# Altium schematic symbol library Schlib1.SchLib: 43 symbols
Pins are listed as number, name and electrical type; pins without a type are passive.

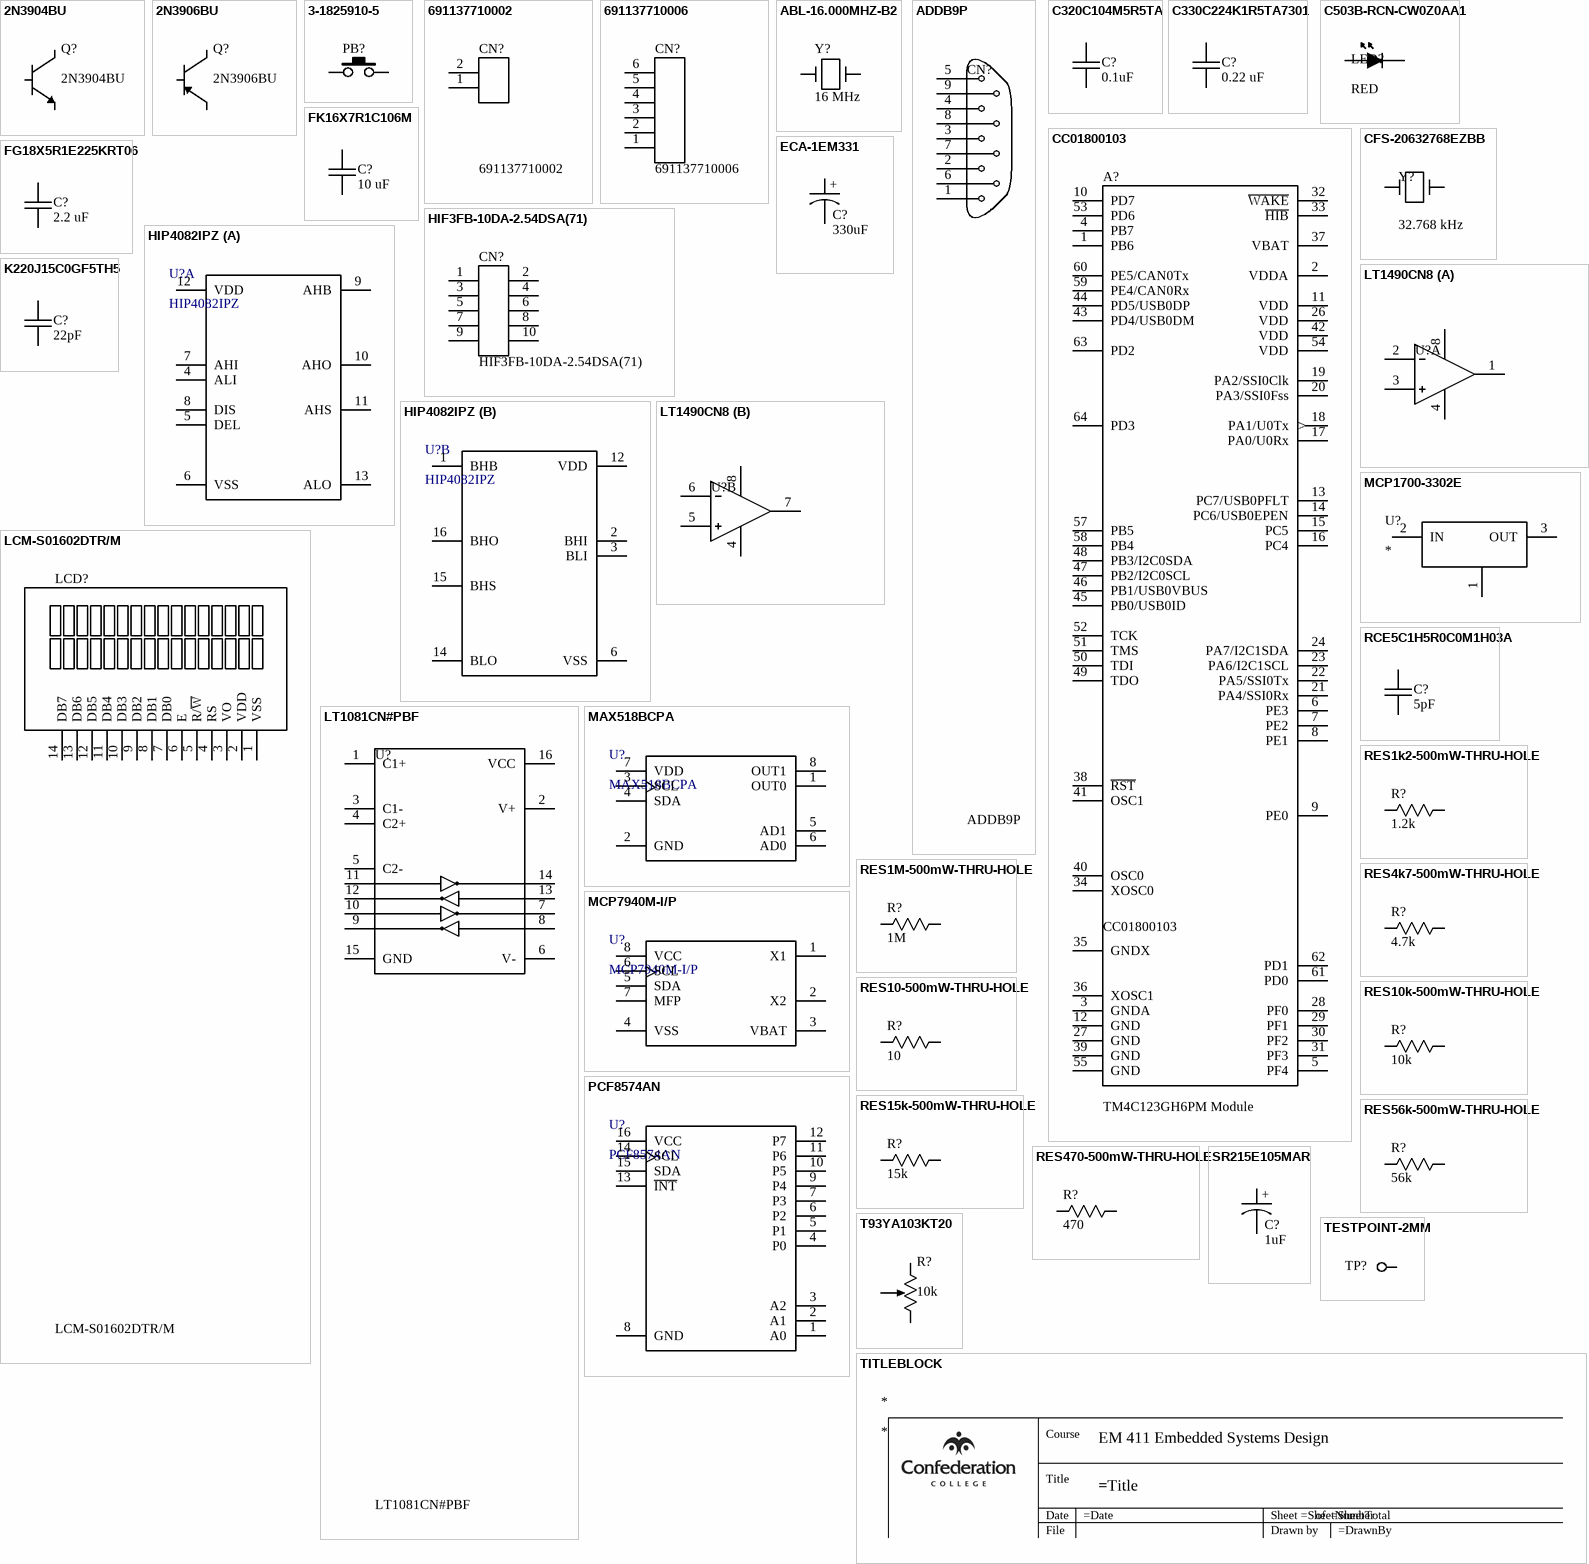
[diagram p0: symbols 2N3904BU to TITLEBLOCK]

## 2N3904BU
designator Q?
NPN General Purpose Amplifier; Manufacturer: Fairchild Semiconductor Corporation; PartNumber: 2N3904BU; Value: NPN
footprint 2N3904BU
pins: 1 E, 2 B, 3 C

## 2N3906BU
designator Q?
PNP General Purpose Amplifier; Manufacturer: Fairchild Semiconductor Corporation; PartNumber: 2N3906BU; Value: PNP
footprint 2N3906BU
pins: 1 E, 2 B, 3 C

## 3-1825910-5
designator PB?  (value not drawn)
SWITCH TACTILE SPST-NO 0.05A 24V; Manufacturer: TE Connectivity ALCOSWITCH Switches; PartNumber: 3-1825910-5
footprint 3-1825910-5
pins: 1, 2

## 691137710002
designator CN?
TERM BLK 2POS SIDE ENTRY 5MM PCB; Manufacturer: Wurth Elektronk; PartNumber: 691137710002
footprint 691137710002
pins: 1, 2

## 691137710006
designator CN?
TERM BLK 6POS SIDE ENTRY 5MM PCB; Manufacturer: Wurth Elektronik; PartNumber: 691137710006
footprint 691137710006
pins: 1, 2, 3, 4, 5, 6

## ABL-16.000MHZ-B2
designator Y?, comment 16 MHz
16 MHz AC/49US (AT49) Microprocessor Crystall; PartNumber: ABL-16.000MHZ-B2; Manufacturer: Abracon Corporation
footprint ABL-16.000MHZ-B2
pins: 1, 2

## ADDB9P
designator CN?
Solderless Breadboard DE9P Adapter; Manufacturer: Technological Arts; PartNumber: ADDB9P
footprint ADDB9P
pins: 1, 2, 3, 4, 5, 6, 7, 8, 9

## C320C104M5R5TA
designator C?, comment 0.1uF
0.1 uF, 50 V Ceramic Capacitor; Manufacturer: Kemet; PartNumber: C320C104M5R5TA
footprint C320C104M5R5TA
pins: 1, 2

## C330C224K1R5TA7301
designator C?, comment 0.22 uF
0.22 uF, 100 V Ceramic Capacitor; Manufacturer: Kemet; PartNumber: C330C224K1R5TA7301
footprint C330C224K1R5TA7301
pins: 1, 2

## C503B-RCN-CW0Z0AA1
designator LED?, comment RED
5 mm Red Round LED; Manufacturer: Cree, Inc.; PartNumber: C503B-RCN-CW0Z0AA1; Value: RED
simulation model Generic Resistor (Thick Film Chip Resistor)
footprint C503B-RCN-CW0Z0AA1
pins: A, K

## CC01800103
designator A?  Microcontroller: TM4C123GH6PM Module
Tiva TM4C123GH6PM Microcontroller Module; Manufacturer: Confederation College; PartNumber: CC01800103
footprint CC01800102
pins: 1 PB6, 2 VDDA (power), 3 GNDA (power), 4 PB7, 5 PF4, 6 PE3, 7 PE2, 8 PE1, 9 PE0, 10 PD7, 11 VDD (power), 12 GND (power), 13 PC7/USB0PFLT, 14 PC6/USB0EPEN, 15 PC5, 16 PC4, 17 PA0/U0Rx, 18 PA1/U0Tx (out), 19 PA2/SSI0Clk, 20 PA3/SSI0Fss, 21 PA4/SSI0Rx, 22 PA5/SSI0Tx, 23 PA6/I2C1SCL, 24 PA7/I2C1SDA, 26 VDD, 27 GND, 28 PF0, 29 PF1, 30 PF2, 31 PF3, 32 ~{WAKE}, 33 ~{HIB}, 34 XOSC0, 35 GNDX (power), 36 XOSC1, 37 VBAT, 38 ~{RST}, 39 GND (power), 40 OSC0 (power), 41 OSC1 (power), 42 VDD, 43 PD4/USB0DM, 44 PD5/USB0DP, 45 PB0/USB0ID, 46 PB1/USB0VBUS, 47 PB2/I2C0SCL, 48 PB3/I2C0SDA, 49 TDO, 50 TDI, 51 TMS, 52 TCK, 53 PD6, 54 VDD (power), 55 GND (power), 57 PB5, 58 PB4, 59 PE4/CAN0Rx, 60 PE5/CAN0Tx, 61 PD0, 62 PD1, 63 PD2, 64 PD3

## CFS-20632768EZBB
designator Y?, comment 32.768 kHz
32.768 kHz Tuning Fork (Cylinder Type, 6 pF); PartNumber: CFS-20632768EZBB; Manufacturer: Citizen
footprint CFS-20632768EZBB
pins: 1, 2

## ECA-1EM331
designator C?, comment 330uF
330 uF, 25 V Aluminum Electrolytic Capacitor; Manufacturer: Panasonic Corporation of North America; PartNumber: ECA-1EM331
footprint ECA-1EM331
pins: 1, 2
text: +

## FG18X5R1E225KRT06
designator C?, comment 2.2 uF
CAP CER 2.2UF 25V X5R RADIAL; Manufacturer: TDK Corporation; PartNumber: FG18X5R1E225KRT06
footprint FG18X5R1E225KRT06
pins: 1, 2

## FK16X7R1C106M
designator C?, comment 10 uF
CAP CER 10UF 16V X7R RADIAL; Manufacturer: TDK Corporation; PartNumber: FK16X7R1C106M
footprint FK16X7R1C106M
pins: 1, 2

## HIF3FB-10DA-2.54DSA(71)
designator CN?
CONN RCPT 10POS 0.1 GOLD PCB; Manufacturer: Hirose Electric Co, Ltd; PartNumber: HIF3FB-10DA-2.54DSA(71)
footprint HIF3FB-10DA-2.54DSA(71)
pins: 1, 2, 3, 4, 5, 6, 7, 8, 9, 10

## HIP4082IPZ
designator U?
80V, 1.25A Peak Current H-Bridge FET Driver; Manufacturer: Renesas; PartNumber: HIP4082IPZ
footprint HIP4082IPZ
part A pins: 4 ALI, 5 DEL, 6 VSS, 7 AHI, 8 DIS, 9 AHB, 10 AHO, 11 AHS, 12 VDD, 13 ALO
part B pins: 1 BHB, 2 BHI, 3 BLI, 6 VSS, 12 VDD, 14 BLO, 15 BHS, 16 BHO

## K220J15C0GF5TH5
designator C?, comment 22pF
22 pF, 50 V Ceramic Capacitor; Manufacturer: Vishay; PartNumber: K220J15C0GF5TH5
footprint K220J15C0GF5TH5
pins: 1, 2

## LCM-S01602DTR/M
designator LCD?
16x2 Character LCD Module, TN, Reflective; Manufacturer: Lumex, Inc.; PartNumber: LCM-S01602DTR/M
footprint LCM-S01602DTR/M
pins: 1 VSS, 2 VDD, 3 VO, 4 RS, 5 R/~{W}, 6 E, 7 DB0, 8 DB1, 9 DB2, 10 DB3, 11 DB4, 12 DB5, 13 DB6, 14 DB7

## LT1081CN#PBF
designator U?
Low Power +5V Powered TIA/EIA-232 Dual Driver/Receiver; Manufacturer: Linear Technology; PartNumber: LT1081CN#PBF
footprint LT1081CN#PBF
pins: 1 C1+, 2 V+, 3 C1-, 4 C2+, 5 C2-, 6 V-, 7, 8, 9, 10, 11, 12, 13, 14, 15 GND, 16 VCC

## LT1490CN8
designator U?
Dual Micropower Rail-to-Rail Input and Output Op Amps; Manufacturer: Linear Technology; PartNumber: LT1490CN8
footprint LT1490CN8#PBF
part A pins: 1 OUTA, 2 -INA, 3 +INA, 4 -V, 8 +V
part B pins: 4 -V, 5 +INB, 6 -INB, 7 OUTB, 8 +V

## MAX518BCPA
designator U?
2-Wire Serial 8-Bit DACs with Rail-to-Rail Outputs; Manufacturer: Maxim Integrated Products; PartNumber: MAX518BCPA
footprint MAX518BCPA
pins: 1 OUT0, 2 GND, 3 SCL, 4 SDA, 5 AD1, 6 AD0, 7 VDD, 8 OUT1

## MCP1700-3302E
designator U?
Low Quiescent Current LDO; Manufacturer: Microchip Technology; PartNumber: MCP1700-3302E
footprint MCP1700-3302E/TO
pins: 1 GND, 2 IN, 3 OUT

## MCP7940M-I/P
designator U?
Clock and Calendar with 64-Byte SRAM; Manufacturer: Microchip Technology; PartNumber: MCP7940M-I/P
footprint MCP7940M-I/P
pins: 1 X1, 2 X2, 3 VBAT, 4 VSS, 5 SDA, 6 SCL, 7 MFP, 8 VCC

## PCF8574AN
designator U?
Remote 8-Bit I/O Expander for I2C Bus; Manufacturer: Texas Instruments Inc.; PartNumber: PCF8574AN
footprint PCF8574AN
pins: 1 A0, 2 A1, 3 A2, 4 P0, 5 P1, 6 P2, 7 P3, 8 GND, 9 P4, 10 P5, 11 P6, 12 P7, 13 ~{INT}, 14 SCL, 15 SDA, 16 VCC

## RCE5C1H5R0C0M1H03A
designator C?, comment 5pF
5 pF, 50 V Ceramic Capacitor; Manufacturer: Murata Electronics North America; PartNumber: RCE5C1H5R0C0M1H03A
footprint RCE5C1H5R0C0M1H03A
pins: 1, 2

## RES1k2-500mW-THRU-HOLE
designator R?, comment 1.2k
1.2k, ±5%, 0.5W Thru-Hole Resistor; Manufacturer: Generic; PartNumber: RES1k2-500mW-THRU-HOLE; Value: 1.2k
simulation model Generic Resistor (Thick Film Chip Resistor)
footprint 1/2WattResistor
pins: 1, 2

## RES1M-500mW-THRU-HOLE
designator R?, comment 1M
1 Mega Ohm, ±5%, 0.5W Thru-Hole Resistor; Manufacturer: Generic; PartNumber: RES1k2-500mW-THRU-HOLE; Value: 1M
simulation model Generic Resistor (Thick Film Chip Resistor)
footprint 1/2WattResistor
pins: 1, 2

## RES4k7-500mW-THRU-HOLE
designator R?, comment 4.7k
4.7 kOhm, ±5%, 0.5W Thru-Hole Resistor; Manufacturer: Generic; PartNumber: RES4k7-500mW-THRU-HOLE; Value: 4.7k
simulation model Generic Resistor (Thick Film Chip Resistor)
footprint 1/2WattResistor
pins: 1, 2

## RES10-500mW-THRU-HOLE
designator R?, comment 10
10 Ohmn, ±5%, 0.5W Thru-Hole Resistor; Manufacturer: Generic; PartNumber: RES10-500mW-THRU-HOLE; Value: 10
simulation model Generic Resistor (Thick Film Chip Resistor)
footprint 1/2WattResistor
pins: 1, 2

## RES10k-500mW-THRU-HOLE
designator R?, comment 10k
10k, ±5%, 0.5W Thru-Hole Resistor; Manufacturer: Generic; PartNumber: RES10k-500mW-THRU-HOLE; Value: 10k
simulation model Generic Resistor (Thick Film Chip Resistor)
footprint 1/2WattResistor
pins: 1, 2

## RES15k-500mW-THRU-HOLE
designator R?, comment 15k
15 kOhm, ±5%, 0.5W Thru-Hole Resistor; Manufacturer: Generic; PartNumber: RES15k-500mW-THRU-HOLE; Value: 15k
simulation model Generic Resistor (Thick Film Chip Resistor)
footprint 1/2WattResistor
pins: 1, 2

## RES56k-500mW-THRU-HOLE
designator R?, comment 56k
56k, ±5%, 0.5W Thru-Hole Resistor; Manufacturer: Generic; PartNumber: RES56k-500mW-THRU-HOLE; Value: 56k
simulation model Generic Resistor (Thick Film Chip Resistor)
footprint 1/2WattResistor
pins: 1, 2

## RES470-500mW-THRU-HOLE
designator R?, comment 470
470 Ohm, ±5%, 0.5W Thru-Hole Resistor; Manufacturer: Generic; PartNumber: RES470-500mW-THRU-HOLE; Value: 470
simulation model Generic Resistor (Thick Film Chip Resistor)
footprint 1/2WattResistor
pins: 1, 2

## SR215E105MAR
designator C?, comment 1uF
1 uF, 50 V Ceramic Capacitor; Manufacturer: AVX Corporation; PartNumber: SR215E105MAR
footprint SR215E105MAR (1 uF, 50 V Ceramic Capacitor)
pins: 1, 2
text: +

## T93YA103KT20
designator R?, comment 10k
10 k, 21-Turn Trimmer; Manufacturer: Vishay Sfernice; PartNumber: T93YA103KT20; Value: 10k
footprint T93YA103KT20
pins: 1, 2, 3

## TESTPOINT-2MM
designator TP?  (value not drawn)  (no BOM)
Test Point 2MM diameter; Manufacturer: -; PartNumber: -
footprint TESTPOINT-2MM
pins: 1

## TITLEBLOCK
designator *
text: Course; EM 411 Embedded Systems Design; Title; Date; Sheet; of; File; Drawn by

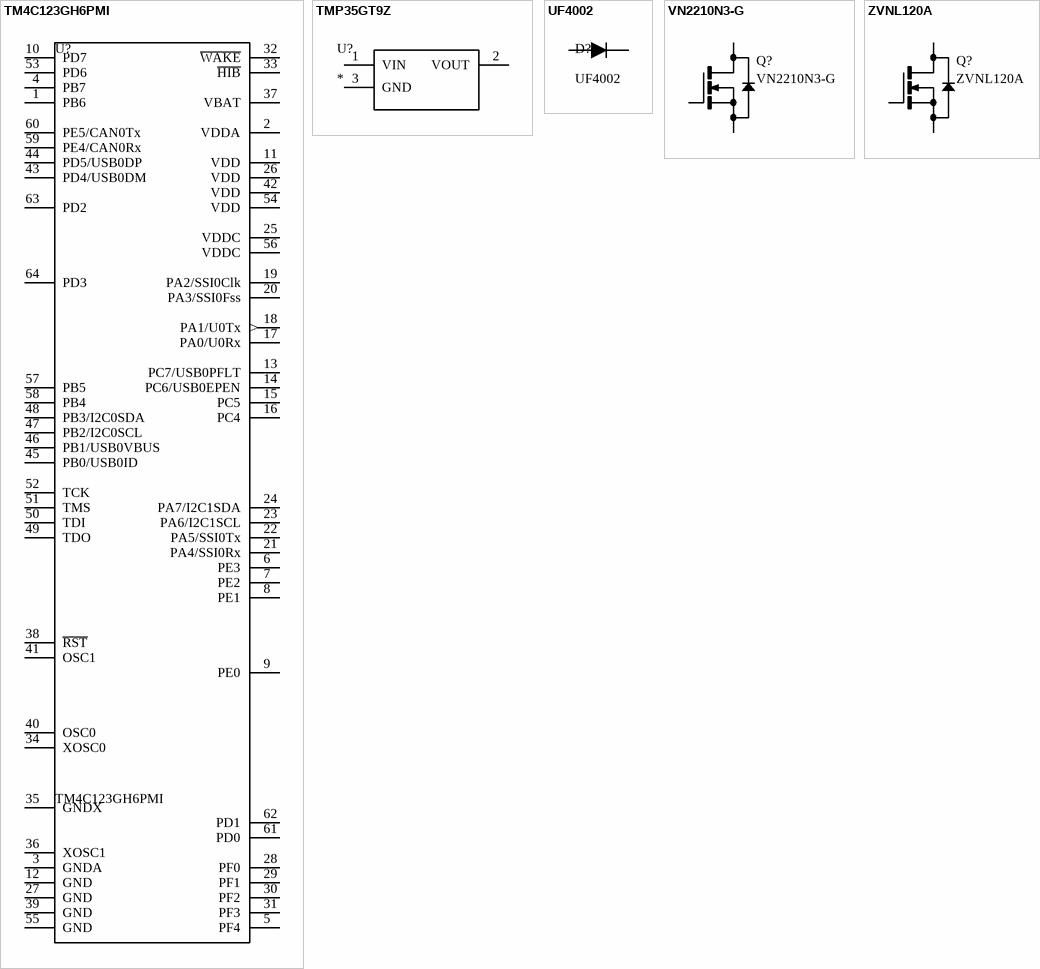
[diagram p1: symbols TM4C123GH6PMI to ZVNL120A]

## TM4C123GH6PMI
designator U?
Tiva TM4C123GH6PM Microcontroller; Manufacturer: Texas Instruments; PartNumber: TM4C123GH6PMI
footprint QFP50P1200X1200X140-64N (QFP,0.50mm pitch, square;64 pin,12.00mm L X 12.00mm W X 1.40mm H body)
pins: 1 PB6, 2 VDDA (power), 3 GNDA (power), 4 PB7, 5 PF4, 6 PE3, 7 PE2, 8 PE1, 9 PE0, 10 PD7, 11 VDD (power), 12 GND (power), 13 PC7/USB0PFLT, 14 PC6/USB0EPEN, 15 PC5, 16 PC4, 17 PA0/U0Rx, 18 PA1/U0Tx (out), 19 PA2/SSI0Clk, 20 PA3/SSI0Fss, 21 PA4/SSI0Rx, 22 PA5/SSI0Tx, 23 PA6/I2C1SCL, 24 PA7/I2C1SDA, 25 VDDC, 26 VDD, 27 GND, 28 PF0, 29 PF1, 30 PF2, 31 PF3, 32 ~{WAKE}, 33 ~{HIB}, 34 XOSC0, 35 GNDX (power), 36 XOSC1, 37 VBAT, 38 ~{RST}, 39 GND (power), 40 OSC0 (power), 41 OSC1 (power), 42 VDD, 43 PD4/USB0DM, 44 PD5/USB0DP, 45 PB0/USB0ID, 46 PB1/USB0VBUS, 47 PB2/I2C0SCL, 48 PB3/I2C0SDA, 49 TDO, 50 TDI, 51 TMS, 52 TCK, 53 PD6, 54 VDD (power), 55 GND (power), 56 VDDC, 57 PB5, 58 PB4, 59 PE4/CAN0Rx, 60 PE5/CAN0Tx, 61 PD0, 62 PD1, 63 PD2, 64 PD3

## TMP35GT9Z
designator U?
Low Voltage Temperature Sensor; Manufacturer: Microchip Technology; PartNumber: TMP35GT9Z
footprint TMP35GT9Z
pins: 1 VIN, 2 VOUT, 3 GND

## UF4002
designator D?
Fast Rectifier; Manufacturer: ON Semiconductor; PartNumber: UF4002
simulation model Generic Resistor (Thick Film Chip Resistor)
footprint UF4002
pins: A, K

## VN2210N3-G
designator Q?
N-Channel Enhancement-Mode Vertical DMOS FETs; Manufacturer: Supertex Inc.; PartNumber: VN2210N3-G
footprint VN2210N3-G
pins: 1 "Source", 2 "Gate", 3 "Drain"

## ZVNL120A
designator Q?
25V, 31 A, N-Channel Power MOSFET; Manufacturer: Diodes Inc; PartNumber: ZVNL120A
footprint ZVNL120A
pins: 1 "Source", 2 "Gate", 3 "Drain"